# Altium schematic symbol library TP5100.SchLib: 1 symbol
Pins are listed as number, name and electrical type; pins without a type are passive.

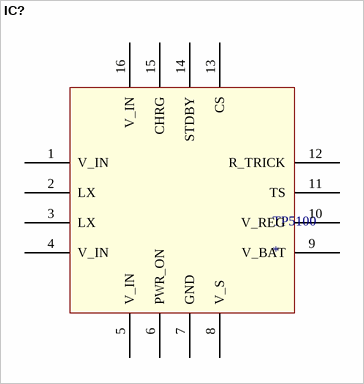
[diagram p0: symbol IC?]

## IC?
designator TP5100
IC sạc pin Lithium
footprint QFN_16_4*4 (QFN, 16-Leads, Body 4.00x4.00mm, Pitch 0.65mm, Thermal Pad 2.10x2.10mm, IPC Medium Density)
pins: 1 V_IN, 2 LX, 3 LX, 4 V_IN, 5 V_IN, 6 PWR_ON, 7 GND, 8 V_S, 9 V_BAT, 10 V_REG, 11 TS, 12 R_TRICK, 13 CS, 14 STDBY, 15 CHRG, 16 V_IN